# Altium footprint library SOP-Advance-8.PcbLib: 1 footprints
Each footprint in its own frame and in the unit in brackets; x right, y up, seen from the top. Pads: shape width x height; smd on the part's side, far side on the other; paste and mask are expansions set on the pad; w line width, h text height; cw(c..) or ccw(c..) is an arc to the next point about the centre after c.
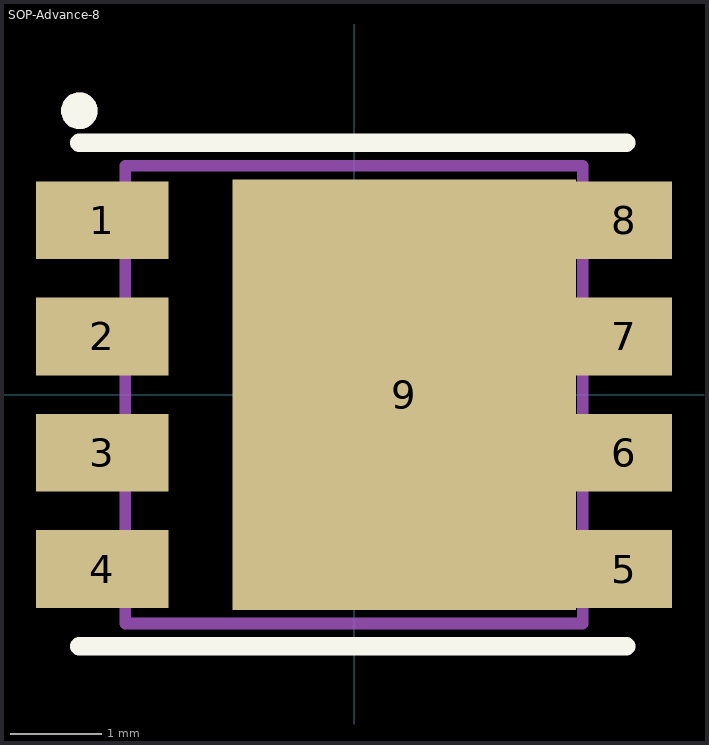
[diagram p0: the footprint, top view; thin cyan lines are the x and y axes]

## SOP-Advance-8 [mm] "Package for TPH6R30ANL,L1Q"
pads (9):
  rect 1.45x0.85 smd mask+0: 1(-2.75,1.905) 2(-2.75,0.635) 3(-2.75,-0.635) 4(-2.75,-1.905)
  rect 1.05x0.85 smd mask+0: 5(2.95,-1.905) 6(2.95,-0.635) 7(2.95,0.635) 8(2.95,1.905)
  rect 3.75x4.7 smd mask+0: 9(0.55,0)
Top Overlay:
  circle w0.2: c-3,3.1 r0.1
  lines w0.2: -3,-2.75 2.975,-2.75 ; -3,2.75 2.975,2.75
Top Designator:
  text ".Designator" at -7.618,-0.233 h1.52
3D Body:
  circle w0.2: c-3,3.1 r0.1
  lines w0.127: -2.5,-2.5 2.5,-2.5 2.5,2.5 -2.5,2.5 -2.5,-2.5
Center Cross:
  lines w0.2: -0.5,0 0,0 ; 0,-0.5 0,0 ; 0,0.5 0,0 ; 0.5,0 0,0
3D body "step_temp.STEP": height 1, standoff 0, extent -3,-2.65 3,2.65